# Altium footprint library EE209_PcbLib.PcbLib: 31 footprints (part 2 of 2)
Each footprint in its own frame and in the unit in brackets; x right, y up, seen from the top. Pads: shape width x height; smd on the part's side, far side on the other; paste and mask are expansions set on the pad; w line width, h text height; cw(c..) or ccw(c..) is an arc to the next point about the centre after c.
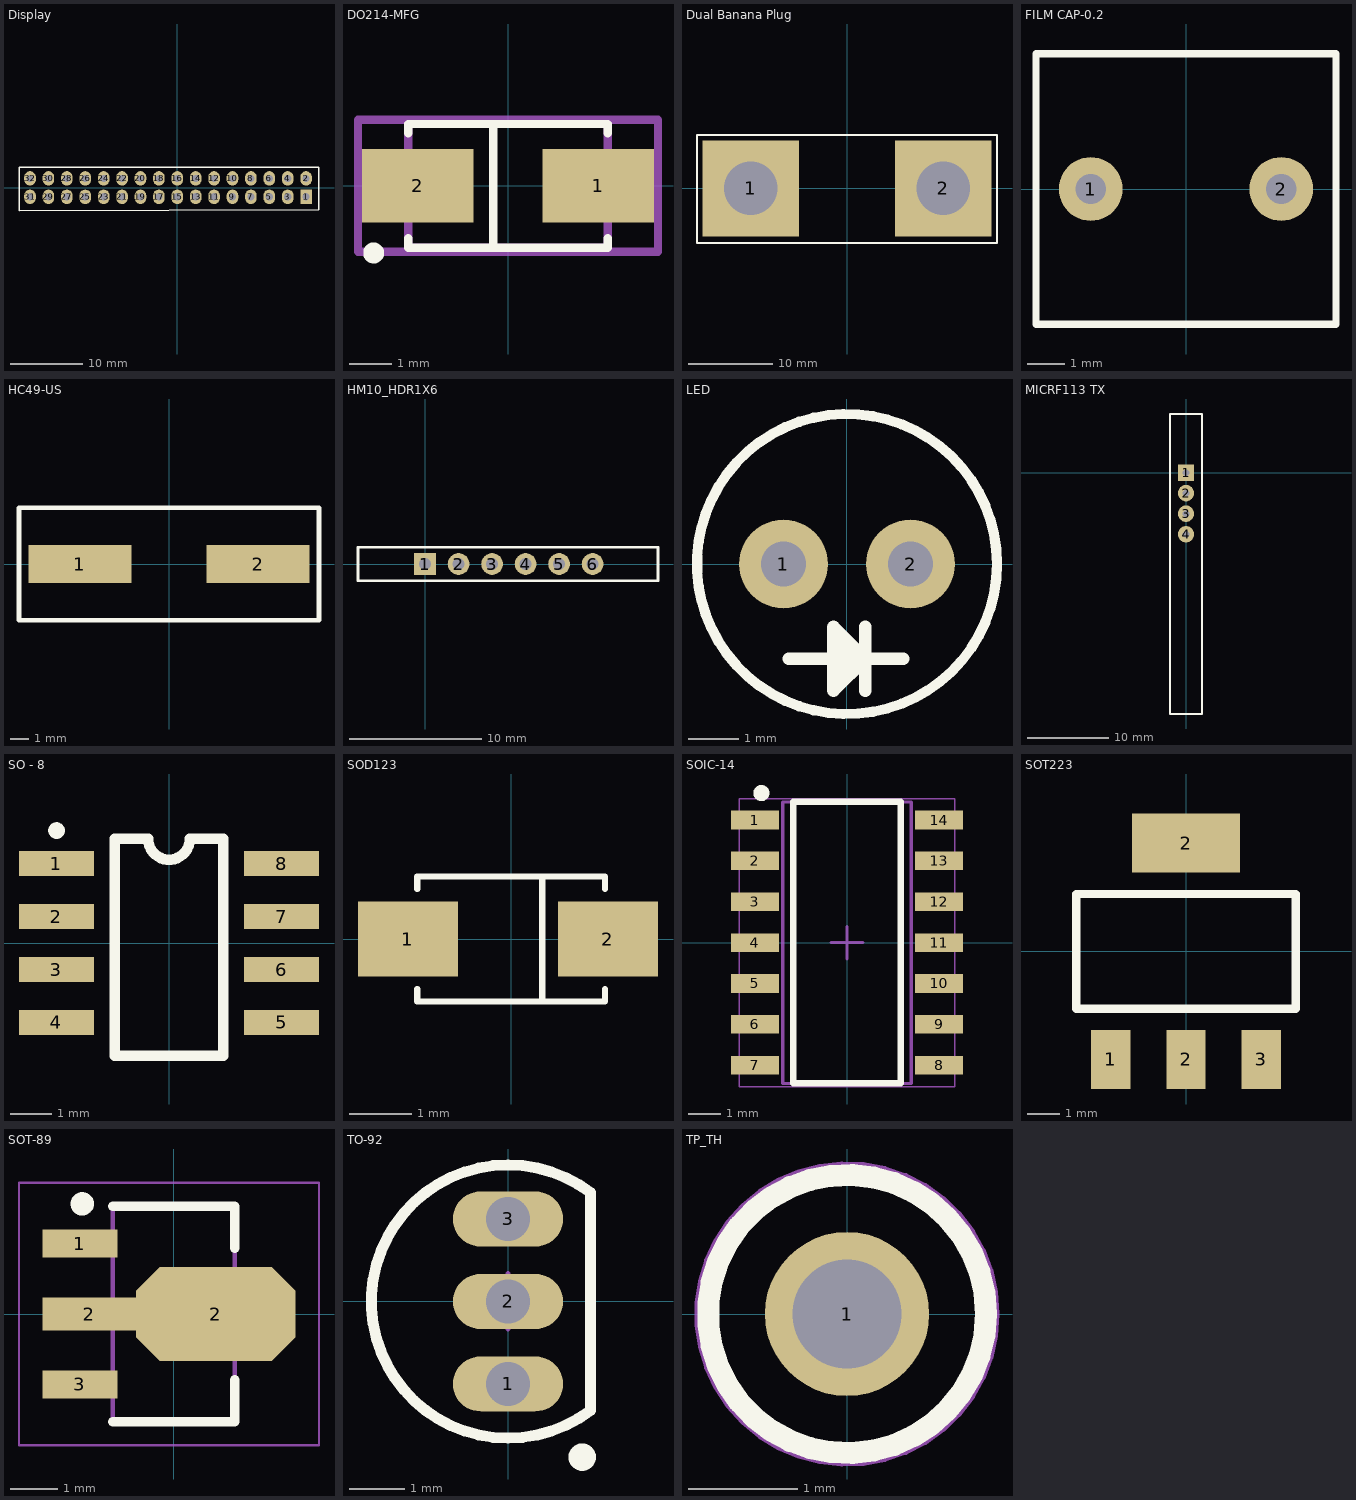
[diagram p1: the footprints below, top view; thin cyan lines are the x and y axes]

## Display [mm]
pads (32):
  rect 1.6x2 hole 1: 1(17.78,-1.27)
  oval 1.6x2 hole 1: 2(17.78,1.27) 3(15.24,-1.27) 4(15.24,1.27) 5(12.7,-1.27) 6(12.7,1.27) 7(10.16,-1.27) 8(10.16,1.27) 9(7.62,-1.27) 10(7.62,1.27) 11(5.08,-1.27) 12(5.08,1.27) 13(2.54,-1.27) 14(2.54,1.27) 15(0,-1.27) 16(0,1.27) 17(-2.54,-1.27) 18(-2.54,1.27) 19(-5.08,-1.27) 20(-5.08,1.27) 21(-7.62,-1.27) 22(-7.62,1.27) 23(-10.16,-1.27) 24(-10.16,1.27) 25(-12.7,-1.27) 26(-12.7,1.27) 27(-15.24,-1.27) 28(-15.24,1.27) 29(-17.78,-1.27) 30(-17.78,1.27) 31(-20.32,-1.27) 32(-20.32,1.27)
Top Overlay:
  lines w0.2: -21.844,-3.175 19.558,-3.048 19.558,2.794 -21.844,2.794 -21.844,-3.175
3D body "7SegmentDisplay.step": height 13, standoff -4.91, extent -32.6,-50 26.4,4

## DO214-MFG [mm]
pads (2):
  rect 2.65x1.75 smd paste+0 mask+0: 1(2.15,0) 2(-2.15,0)
Top Overlay:
  circle w0.25: c-3.2,-1.6 r0.125
  lines w0.2: -2.375,-1.25 -2.375,-1.475 2.375,-1.475 2.375,-1.25 ; -2.375,1.25 -2.375,1.475 2.375,1.475 2.375,1.25 ; -0.35,-1.4 -0.35,1.4
Mechanical 5:
  lines w0.2: -3.575,-1.575 3.575,-1.575 3.575,1.575 -3.575,1.575 -3.575,-1.575
Mechanical 13:
  lines w0.2: -2.375,-1.475 2.375,-1.475 2.375,1.475 -2.375,1.475 -2.375,-1.475
Mechanical 15:
  lines w0.2: -3.575,-1.575 3.575,-1.575 3.575,1.575 -3.575,1.575 -3.575,-1.575
3D body "Diode_ON_Semiconductor_ES1G_eec.STEP": height 0.25, standoff 0, extent -3.575,-1.575 3.575,1.575

## Dual Banana Plug [mm] "Connector; 2 Position"
height 10.2
pads (2):
  rect 11.43x11.43 hole 6.35: 1(-11.43,0) 2(11.43,0)
Top Overlay:
  lines w0.2: -17.8,-6.477 17.8,-6.477 17.8,6.35 -17.8,6.35 -17.8,-6.477
3D body: height 5, standoff 0, extent -17.383,-5.988 -5.43,5.988
3D body: height 5, standoff 0, extent 5.477,-5.988 17.43,5.988
3D body: height 5.5, standoff 0, extent 7.431,-3.992 15.4,3.992
3D body: height 5.5, standoff 0, extent -15.384,-3.984 -7.416,4

## FILM CAP-0.2 [mm]
pads (2):
  round 1.7 hole 0.8: 1(-2.54,0) 2(2.54,0)
Top Overlay:
  lines w0.2: -4,-3.6 4,-3.6 4,3.6 -4,3.6 -4,-3.6
3D body "WIMA 7.2 x 7.2 x 13.step": height 13.2, standoff -2.8, extent -3.6,-3.6 3.6,3.6

## HC49-US [mm] "20Mhz Crystal"
height 3.8
pads (2):
  rect 5.5x2 smd: 1(-4.75,0) 2(4.75,0)
Top Overlay:
  lines w0.254: -8,-3 8,-3 8,3 -8,3 -8,-3
3D body: height 3.8, standoff 0, extent -4.772,-2.391 0.009,2.4
3D body: height 3.8, standoff 0, extent 0.009,-2.391 4.791,2.4
3D body: height 3.8, standoff 0, extent -2.5,-2.4 2.5,2.4

## HM10_HDR1X6 [mil] "Connector; Header; 6 Position"
pads (6):
  rect 65x65 hole 35.43: 1(0,0)
  round 65 hole 35.43: 2(100,0) 3(200,0) 4(300,0) 5(400,0) 6(500,0)
Top Overlay:
  lines w7.87: -200,-50 -200,50 695,50 695,-50 -200,-50
3D body "HM-10 v2.step": height 1842.52, standoff -106.3, extent -141.73,-39.37 570.87,228.35

## LED [mil]
pads (2):
  round 70 hole 35.43: 1(-50,0) 2(50,0)
Top Overlay:
  circle w8: c0,0 r118.11
  lines w10: -45.63,-74.69 44.37,-74.69 ; -0.94,-89.99 -0.94,-59.99 -0.63,-59.69 ; 14.37,-99.69 14.37,-49.69 ; -10.63,-99.69 -10.63,-49.69 14.37,-74.69 -10.63,-99.69
3D body: height 413.39, standoff 216.54, extent -97.97,-98.31 98.43,98.32
3D body: height 314.96, standoff 157.48, extent -98.42,-98.29 98.43,98.3
3D body: height 275.59, standoff -78.74, extent 44.1,-5.9 55.91,5.91
3D body: height 275.59, standoff -78.74, extent -55.9,-5.9 -44.09,5.91

## MICRF113 TX [mil]
pads (4):
  rect 80x80 hole 32: 1(0,0)
  round 80 hole 32: 2(0,-100) 3(0,-200) 4(0,-300)
Top Overlay:
  lines w10: -78.74,-1175 -78.74,285 78.74,285 78.74,-1175 -78.74,-1175
3D body: height 787.4, standoff 0, extent -78.74,-1181.1 78.74,285

## SO - 8 [mm]
pads (8):
  rect 1.8x0.6 smd: 1(-2.7,1.905) 2(-2.7,0.635) 3(-2.7,-0.635) 4(-2.7,-1.905) 5(2.7,-1.905) 6(2.7,-0.635) 7(2.7,0.635) 8(2.7,1.905)
Top Overlay:
  circle w0.2: c-2.7,2.7 r0.1
  lines w0.254: -1.3,-2.7 -1.3,2.5 -0.5,2.5 ccw(c0,2.5) 0.5,2.5 1.3,2.5 1.3,-2.7 -1.3,-2.7
3D body: height 1.8, standoff 0, extent -1.496,1.001 -0.5,1.999
3D body "soic8_p1-27_l5-0_w4-0.stp": height 1.8, standoff -0.1, extent -3.1,-2.5 3.1,2.5

## SOD123 [mm] "SOD-123; 2 Leads; Body 2.7 x 1.6 mm, (LxW)"
height 1.35
pads (2):
  rect 1.6x1.2 smd: 1(-1.65,0) 2(1.55,0)
Top Overlay:
  lines w0.1: -1.5,-0.8 -1.5,-1 1.5,-1 1.5,-0.8 ; -1.5,0.8 -1.5,1 1.5,1 1.5,0.8 ; 0.5,-1 0.5,1
3D body: height 0.25, standoff 0, extent -1.8,-0.35 1.8,0.35
3D body: height 1.2, standoff 0, extent -1.35,-0.85 1.35,0.85
3D body: height 1.21, standoff 0, extent 0.8,-0.86 0.9,0.86

## SOIC-14 [mm] "SOIC, 14-Leads, Body 8.75x4mm, Pitch 1.27mm"
height 1.75
pads (14):
  rect 1.48x0.58 smd: 1(-2.86,3.81) 2(-2.86,2.54) 3(-2.86,1.27) 4(-2.86,0) 5(-2.86,-1.27) 6(-2.86,-2.54) 7(-2.86,-3.81) 8(2.86,-3.81) 9(2.86,-2.54) 10(2.86,-1.27) 11(2.86,0) 12(2.86,1.27) 13(2.86,2.54) 14(2.86,3.81)
Top Overlay:
  circle w0.25: c-2.66,4.65 r0.125
  lines w0.2: -1.67,-4.375 -1.67,4.375 1.67,4.375 1.67,-4.375 -1.67,-4.375
Mechanical 13:
  lines w0.1: -2,-4.375 2,-4.375 2,4.375 -2,4.375 -2,-4.375
Mechanical 15:
  lines w0.05: -3.35,-4.475 3.35,-4.475 3.35,4.475 -3.35,4.475 -3.35,-4.475
  lines w0.1: -0.5,0 0.5,0 ; 0,-0.5 0,0.5
3D body "User Library-SOIC14_JEDEC_MS-012AB.STEP": height 1.75, standoff -0.01, extent -3.1,-4.375 3.1,4.375

## SOT223 [mm] "SOT223_TRANSISTOR"
height 1.6
pads (4):
  rect 1.2x1.8 smd: 1(-2.3,-3.3) 2(0,-3.3) 3(2.3,-3.3)
  rect 3.3x1.8 smd: 2(0,3.3)
Top Overlay:
  lines w0.254: -3.35,-1.75 -3.35,1.75 3.35,1.75 3.35,-1.75 -3.35,-1.75
3D body: height 0.3, standoff 0.05, extent 1.9,-3.5 2.7,-1.75
3D body: height 0.3, standoff 0.05, extent -2.7,-3.5 -1.9,-1.75
3D body: height 0.3, standoff 0.05, extent -0.4,-3.5 0.4,-1.75
3D body: height 0.3, standoff 0.05, extent -1.5,1.75 1.5,3.5
3D body: height 1.6, standoff 0, extent -3.35,-1.75 3.35,1.75

## SOT-89 [mm] "SOT89, 3-Leads, Body 4.5x2.4 mm, Pitch 1.5mm, Lead Span 4.1mm, IPC Low Density"
height 1.6
pads (4):
  rect 1.6x0.6 smd: 1(-2,1.5) 3(-2,-1.5)
  rect 2x0.7 smd: 2(-1.8,0)
  oct 3.4x2 smd: 2(0.9,0)
Top Overlay:
  circle w0.25: c-1.95,2.35 r0.125
  lines w0.2: -1.3,-2.3 1.3,-2.3 1.3,-1.4 ; -1.3,2.3 1.3,2.3 1.3,1.4
Mechanical 13:
  lines w0.1: -1.3,-2.3 -1.3,2.3 1.3,2.3 1.3,-2.3 -1.3,-2.3
Mechanical 15:
  lines w0.05: -3.3,-2.8 -3.3,2.8 3.1,2.8 3.1,-2.8 -3.3,-2.8
3D body "TO-243AA.stp": height 1.6, standoff 0, extent -2.25,-2.29 2,2.29

## TO-92 [mm] "TO, Flat Index; 3 In-Line, Axial Leads; Body Dia. 4.5mm; Leads 0.51 x 0.48 mm (max)"
height 6.86
pads (3):
  oval 2x1 hole 0.8: 1(0,-1.5) 2(0,0) 3(0,1.5)
Top Overlay:
  circle w0.25: c1.35,-2.83 r0.125
  lines w0.2: 1.5,-1.98 cw(c0,0) 1.5,1.98 1.5,-1.98
Mechanical 13:
  lines w0.1: 1.5,-1.98 cw(c0,0) 1.5,1.98 1.5,-1.98
Mechanical 15:
  lines w0.1: -0.5,0 0.5,0 ; 0,-0.5 0,0.5
3D body "TO-92A.STEP": height 6.73, standoff -4.27, extent -2.4,-2.4 1.53,2.4

## TP_TH [mm] "Test Point, Through Hole, Dia 2.54mm"
height 4.57
pads (1):
  round 1.5 hole 1: 1(0,0)
Top Overlay:
  circle w0.2: c0,0 r1.27
Mechanical 13:
  circle w0.1: c0,0 r1.27
Mechanical 15:
  circle w0.05: c0,0 r1.37
  lines w0.1: -0.5,0 0.5,0 ; 0,-0.5 0,0.5
3D body "User Library-Test Point Keystone - 5003 ORANGE.STEP": height 4.57, standoff -3.05, extent -1.27,-1.27 1.27,1.27